# EAGLE library part ILD205T (library ILD205T)
Vishay ILD205T DC Input Phototransistor Output Dual Optocoupler, Surface Mount, 8-Pin SOIC Source: Datasheet <https://componentsearchengine.com/Datasheets/2/ILD205T.pdf>
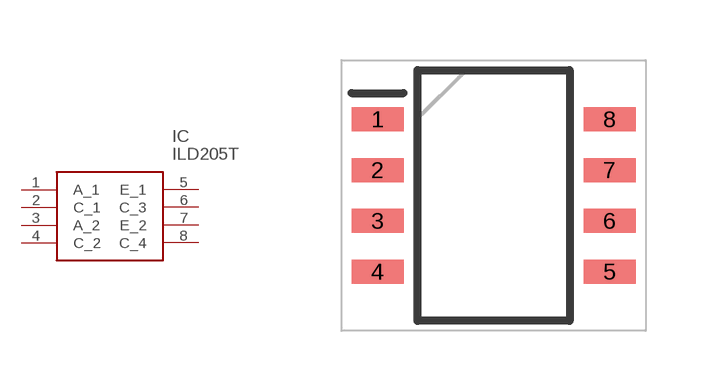
[diagram p0: symbol with the pads of SOT127P610X350-8N; footprint SOT127P610X350-8N]

Designator prefix IC

## ILD205T (Description: Vishay ILD205T DC Input Phototransistor Output Dual Optocoupler, Surface Mount, 8-Pin SOIC; Height: 3.5mm; Manufacturer_Name: Vishay; Manufacturer_Part_Number: ILD205T; Mouser_Part_Number: 782-ILD205T; Mouser_Price-Stock: https://www.mouser.com/Search/Refine.aspx?Keyword=782-ILD205T; RS_Part_Number: 9034709P; RS_Price-Stock: http://uk.rs-online.com/web/p/products/9034709P)  [SOT127P610X350-8N]
1  A_1
2  C_1
3  A_2
4  C_2
5  E_1
6  C_3
7  E_2
8  C_4

## Footprint SOT127P610X350-8N (pad centres in mm)
ILD205T
smd 1.3 x 0.6: 1 -2.9,1.905; 2 -2.9,0.635; 3 -2.9,-0.635; 4 -2.9,-1.905; 5 2.9,-1.905; 6 2.9,-0.635; 7 2.9,0.635; 8 2.9,1.905